# EAGLE library part CARD-EDGE-18X2P (library ISA-Card-Edge-Conncetor-18x2P)
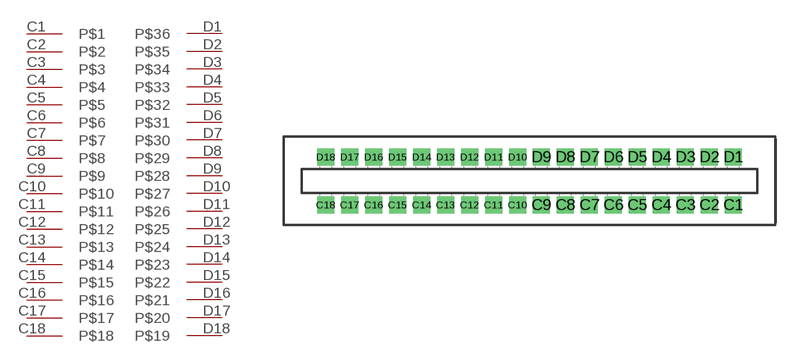
[diagram p1: symbol with the pads of ISA-4; footprint ISA-4]

Designator prefix -

## CARD-EDGE-18X2P  [ISA-4]
C1  P$1
C2  P$2
C3  P$3
C4  P$4
C5  P$5
C6  P$6
C7  P$7
C8  P$8
C9  P$9
C10  P$10
C11  P$11
C12  P$12
C13  P$13
C14  P$14
C15  P$15
C16  P$16
C17  P$17
C18  P$18
D1  P$36
D2  P$35
D3  P$34
D4  P$33
D5  P$32
D6  P$31
D7  P$30
D8  P$29
D9  P$28
D10  P$27
D11  P$26
D12  P$25
D13  P$24
D14  P$23
D15  P$22
D16  P$21
D17  P$20
D18  P$19

## Footprint ISA-4 (pad centres in mm)
drill 1.2 pad 1.778 square: C1 22.86,-2.54; C2 20.32,-2.54; C3 17.78,-2.54; C4 15.24,-2.54; C5 12.7,-2.54; C6 10.16,-2.54; C7 7.62,-2.54; C8 5.08,-2.54; C9 2.54,-2.54; C10 0,-2.54; C11 -2.54,-2.54; C12 -5.08,-2.54; C13 -7.62,-2.54; C14 -10.16,-2.54; C15 -12.7,-2.54; C16 -15.24,-2.54; C17 -17.78,-2.54; C18 -20.32,-2.54; D1 22.86,2.54; D2 20.32,2.54; D3 17.78,2.54; D4 15.24,2.54; D5 12.7,2.54; D6 10.16,2.54; D7 7.62,2.54; D8 5.08,2.54; D9 2.54,2.54; D10 0,2.54; D11 -2.54,2.54; D12 -5.08,2.54; D13 -7.62,2.54; D14 -10.16,2.54; D15 -12.7,2.54; D16 -15.24,2.54; D17 -17.78,2.54; D18 -20.32,2.54